# EAGLE library part WI232_EV (library paparazzi)
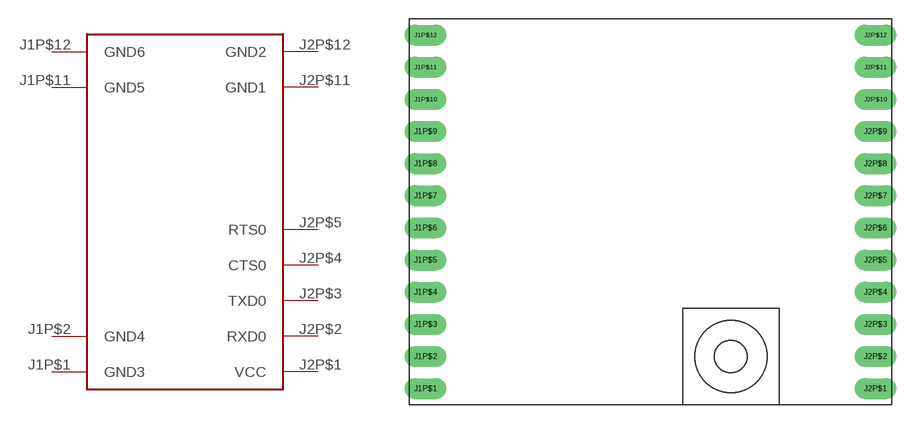
[diagram p45: symbol with the pads of WI_232_EVM; footprint WI_232_EVM]

Designator prefix -

## WI232_EV  [WI_232_EVM]
J1P$1  GND3
J1P$2  GND4
J1P$11  GND5
J1P$12  GND6
J2P$1  VCC
J2P$2  RXD0
J2P$3  TXD0
J2P$4  CTS0
J2P$5  RTS0
J2P$11  GND1
J2P$12  GND2

## Footprint WI_232_EVM (pad centres in mm)
drill 0.8 pad 1.676 long: J1P$1 -17.78,0; J1P$2 -17.78,2.54; J1P$3 -17.78,5.08; J1P$4 -17.78,7.62; J1P$5 -17.78,10.16; J1P$6 -17.78,12.7; J1P$7 -17.78,15.24; J1P$8 -17.78,17.78; J1P$9 -17.78,20.32; J1P$10 -17.78,22.86; J1P$11 -17.78,25.4; J1P$12 -17.78,27.94; J2P$1 17.78,0; J2P$2 17.78,2.54; J2P$3 17.78,5.08; J2P$4 17.78,7.62; J2P$5 17.78,10.16; J2P$6 17.78,12.7; J2P$7 17.78,15.24; J2P$8 17.78,17.78; J2P$9 17.78,20.32; J2P$10 17.78,22.86; J2P$11 17.78,25.4; J2P$12 17.78,27.94